# EAGLE library part MAX201* (library maxim-8)
RS232 TRANSEIVER
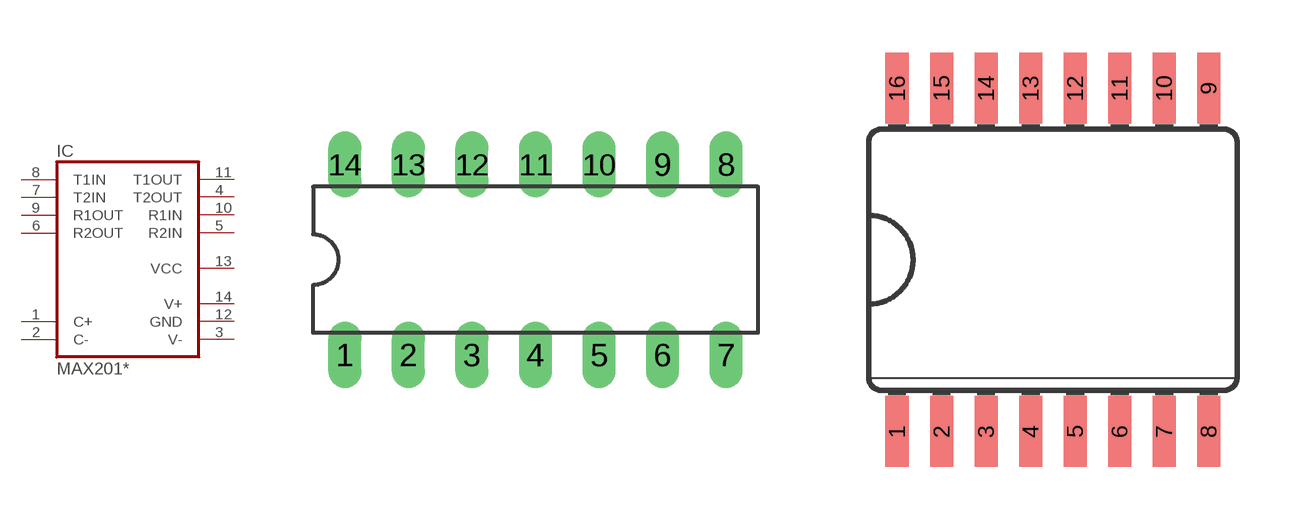
[diagram p375: symbol with the pads of DIL14; footprints DIL14, SO16L]

Designator prefix IC

## MAX201CPD, MAX201EPD  [DIL14]
1  C+  pas
2  C-  pas
3  V-  sup
4  T2OUT  out
5  R2IN  in
6  R2OUT  out
7  T2IN  in
8  T1IN  in
9  R1OUT  out
10  R1IN  in
11  T1OUT  out
12  GND  pwr
13  VCC  pwr
14  V+  sup

## MAX201CWE, MAX201EWE  [SO16L]
1  C+  pas
2  C-  pas
3  V-  sup
4  T2OUT  out
5  R2IN  in
6  R2OUT  out
7  T2IN  in
10  T1IN  in
11  R1OUT  out
12  R1IN  in
13  T1OUT  out
14  GND  pwr
15  VCC  pwr
16  V+  sup

## Footprint DIL14 (pad centres in mm)
Dual In Line Package
drill 0.813 long: 1 -7.62,-3.81; 2 -5.08,-3.81; 3 -2.54,-3.81; 4 0,-3.81; 5 2.54,-3.81; 6 5.08,-3.81; 7 7.62,-3.81; 8 7.62,3.81; 9 5.08,3.81; 10 2.54,3.81; 11 0,3.81; 12 -2.54,3.81; 13 -5.08,3.81; 14 -7.62,3.81

## Footprint SO16L (pad centres in mm)
Small Outline Package
smd 0.66 x 2.032: 1 -4.445,-4.902; 2 -3.175,-4.902; 3 -1.905,-4.902; 4 -0.635,-4.902; 5 0.635,-4.902; 6 1.905,-4.902; 7 3.175,-4.902; 8 4.445,-4.902; 9 4.445,4.902; 10 3.175,4.902; 11 1.905,4.902; 12 0.635,4.902; 13 -0.635,4.902; 14 -1.905,4.902; 15 -3.175,4.902; 16 -4.445,4.902